# Altium footprint library Infineon_BTN7970B_1.PcbLib: 1 footprints
Each footprint in its own frame and in the unit in brackets; x right, y up, seen from the top. Pads: shape width x height; smd on the part's side, far side on the other; paste and mask are expansions set on the pad; w line width, h text height; cw(c..) or ccw(c..) is an arc to the next point about the centre after c.
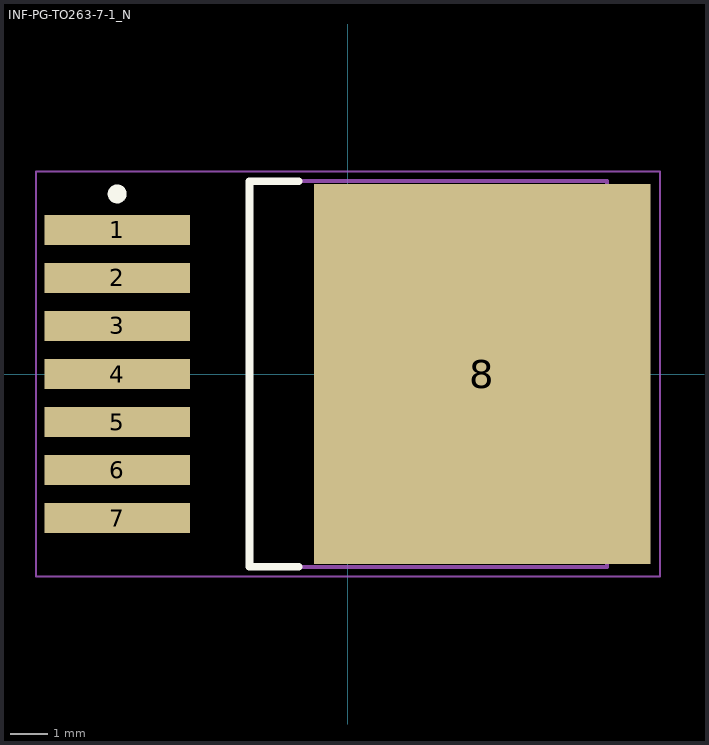
[diagram p0: the footprint, top view; thin cyan lines are the x and y axes]

## INF-PG-TO263-7-1_N [mm] "DPAK, 8-Leads, Body 10x9.25mm, Pitch 1.27mm, IPC Medium Density"
height 4.4
pads (8):
  rect 3.85x0.8 smd: 1(-6.1,3.81) 2(-6.1,2.54) 3(-6.1,1.27) 4(-6.1,0) 5(-6.1,-1.27) 6(-6.1,-2.54) 7(-6.1,-3.81)
  rect 8.9x10.05 smd: 8(3.55,0)
Top Overlay:
  circle w0.25: c-6.1,4.76 r0.125
  lines w0.2: -1.3,-5.1 -2.6,-5.1 -2.6,5.1 -1.3,5.1
Mechanical 13:
  lines w0.1: -2.6,-5.1 -2.6,5.1 6.85,5.1 6.85,-5.1 -2.6,-5.1
Mechanical 15:
  lines w0.05: -8.25,-5.35 -8.25,5.35 8.25,5.35 8.25,-5.35 -8.25,-5.35
  lines w0.1: -0.5,0 0.5,0 ; 0,-0.5 0,0.5
3D body: height 4.4, standoff 0.1, extent -2.6,-5.1 6.85,5.1